# EAGLE library part 74HCT4066D (library NXP_By_element14_Batch_1)
Quad bilateral switches
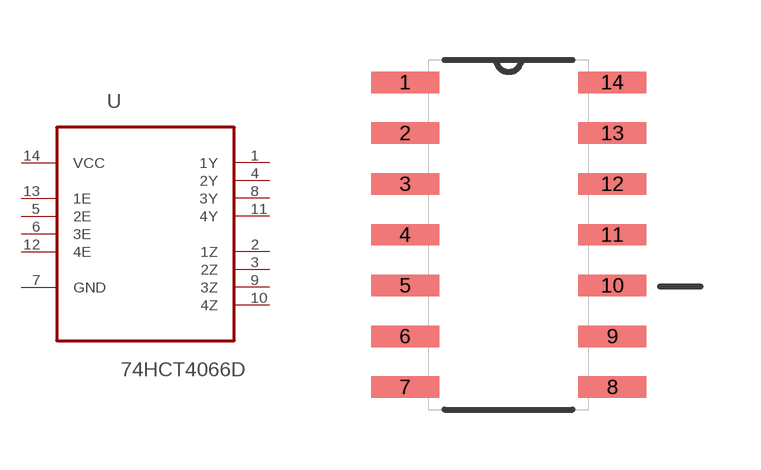
[diagram p203: symbol with the pads of SOIC127P600X175-14N; footprint SOIC127P600X175-14N]

Designator prefix U

## 74HCT4066D (MPN: 74HCT4066D; OC_FARNELL: 1201271; OC_NEWARK: 26M7751; P1I: o; PACKAGE: SOIC-14; SUPPLIER: NXP)  [SOIC127P600X175-14N]
1  1Y
2  1Z
3  2Z
4  2Y
5  2E  in
6  3E  in
7  GND  pas
8  3Y
9  3Z
10  4Z
11  4Y
12  4E  in
13  1E  in
14  VCC  pwr

## Footprint SOIC127P600X175-14N (pad centres in mm)
smd 1.702 x 0.533: 1 -2.591,3.81; 2 -2.591,2.54; 3 -2.591,1.27; 4 -2.591,0; 5 -2.591,-1.27; 6 -2.591,-2.54; 7 -2.591,-3.81; 8 2.591,-3.81; 9 2.591,-2.54; 10 2.591,-1.27; 11 2.591,0; 12 2.591,1.27; 13 2.591,2.54; 14 2.591,3.81